# Altium schematic symbol library SLG59M1717V.SchLib: 1 symbol
Pins are listed as number, name and electrical type; pins without a type are passive.

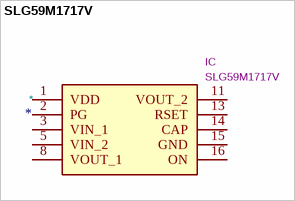
[diagram p0: symbol SLG59M1717V]

## SLG59M1717V
designator *  value SLG59M1717V  Reference: IC
Manufacturer_Name: Renesas Electronics; ki_description: Operating from a 2.5V to 5.5V power supply and fully specified over the -40Cto85C Industrial temperature range, the SLG59M1717V is a highperformance 4m, 5A singlechannel nFET load switch designed for all 0.8V to 5.5V power rail applications. The SLG59M1717V features adjustable inrush current control which is achieved by adjusting the VOUT slew rate with an external capacitor. Using a proprietary MOSFET design, the SLG59M1717V achieves a stable 4m RDSON across a wide input/supply voltage ran; Footprint: SLG59M1717V; Datasheet: https://www.renesas.com/us/en/products/power-power-management/power-supply-support/hot-swap-ideal-diodeoring-fet-controllers/load-switches/slg59m1717v-greenfet-single-n-channel-load-switch; Height: 0.6; Manufacturer_Part_Number: SLG59M1717V; Mouser Part Number: 402-SLG59M1717V; Mouser Price/Stock: https://www.mouser.co.uk/ProductDetail/Renesas-Dialog/SLG59M1717V?qs=%252B6g0mu59x7KRkBuJjinPDA%3D%3D
pins: 1 VDD, 2 PG, 3 VIN_1, 5 VIN_2, 8 VOUT_1, 11 VOUT_2, 13 RSET, 14 CAP, 15 GND, 16 ON